# Altium footprint library 接口.PCBLIB: 266 footprints (part 7 of 17)
Each footprint in its own frame and in the unit in brackets; x right, y up, seen from the top. Pads: shape width x height; smd on the part's side, far side on the other; paste and mask are expansions set on the pad; w line width, h text height; cw(c..) or ccw(c..) is an arc to the next point about the centre after c.
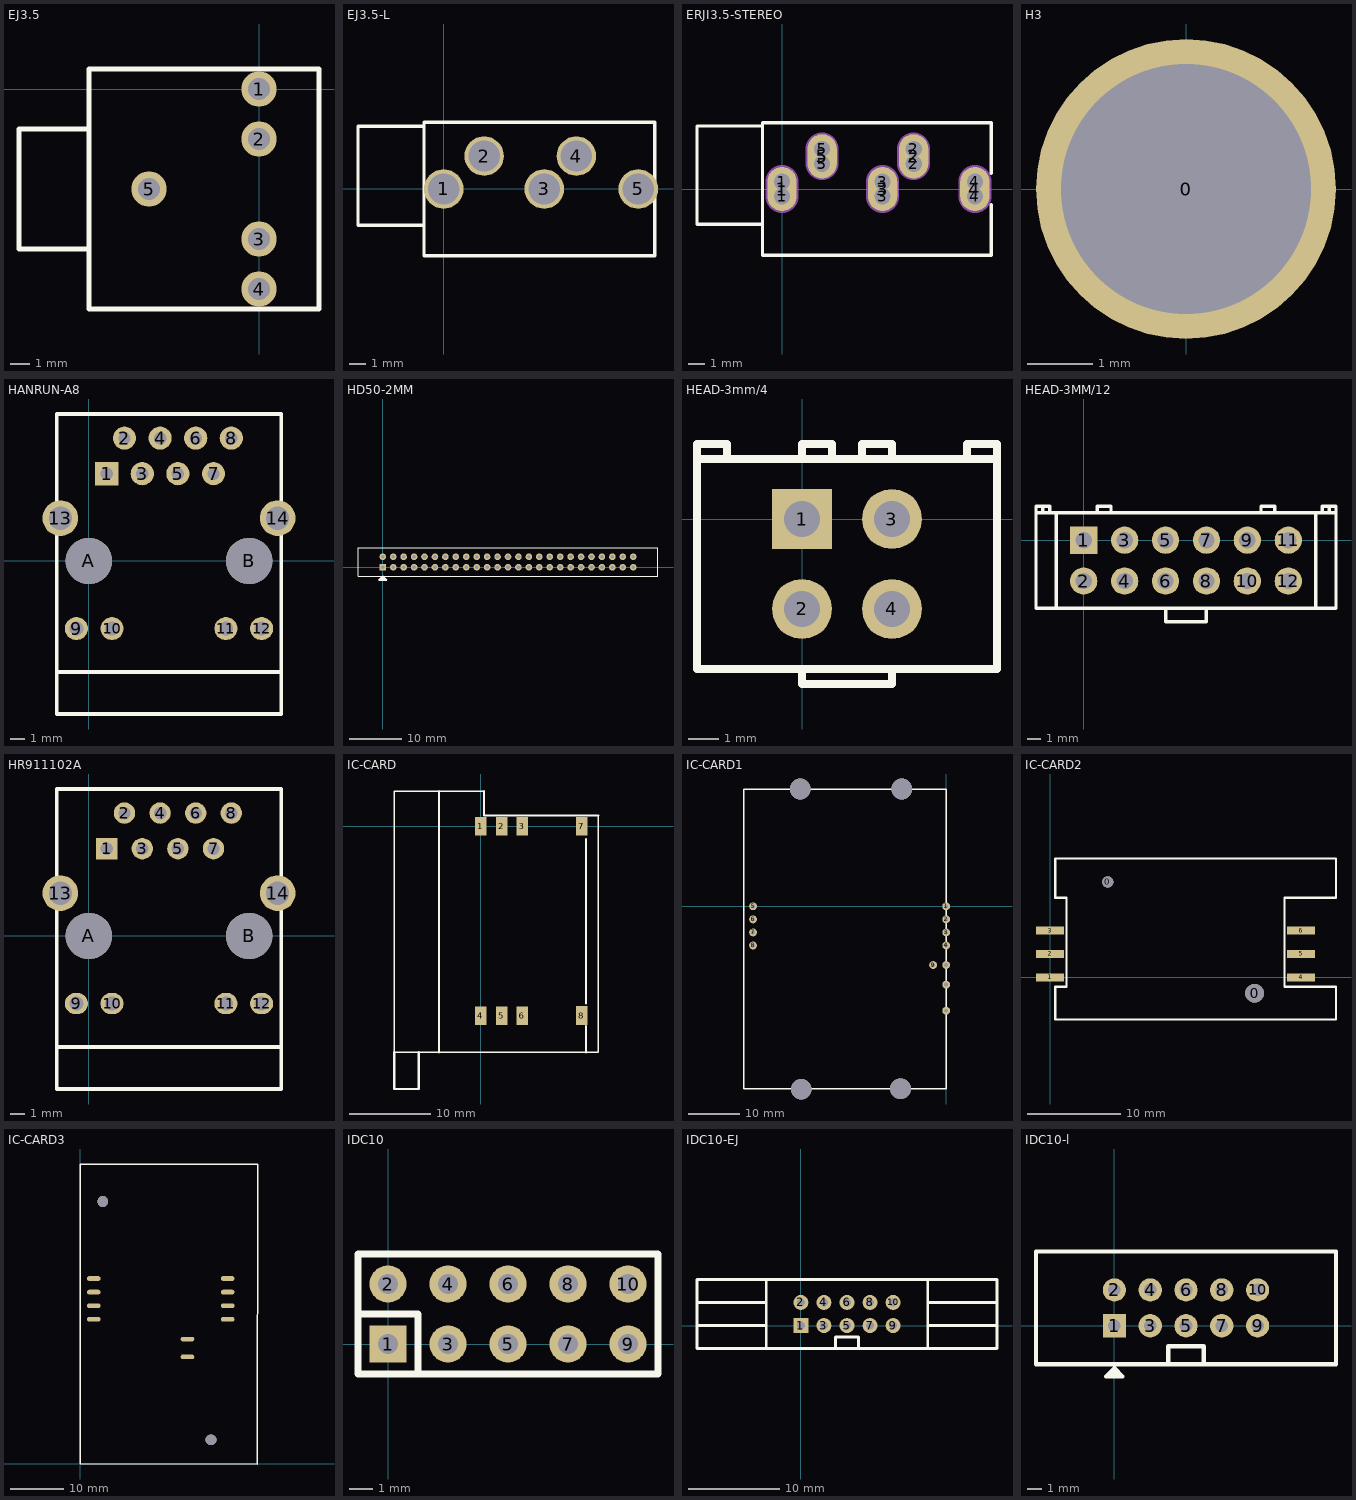
[diagram p6: the footprints below, top view; thin cyan lines are the x and y axes]

## EJ3.5 [mm]
pads (5):
  round 1.8 hole 1.1: 1(0,0) 2(0,-2.54) 3(0,-7.62) 4(0,-10.16) 5(-5.588,-5.08)
TopOverlay:
  lines w0.254: -8.636,-8.128 -12.192,-8.128 -12.192,-2.032 -8.636,-2.032 ; -8.636,-11.176 -8.636,1.016 3.048,1.016 3.048,-11.176 -8.636,-11.176

## EJ3.5-L [mm]
pads (5):
  round 2.4 hole 1.9: 1(0,0) 2(2.45,2) 3(6.1,0) 4(8.05,2) 5(11.8,0)
TopOverlay:
  lines w0.2: -1.2,-2.2 -5.2,-2.2 -5.2,3.8 -1.2,3.8 ; -1.2,-4.05 -1.2,4.05 12.8,4.05 12.8,-4.05 -1.2,-4.05

## ERJI3.5-STEREO [mm]
pads (15):
  round 1.2 hole 1: 1(0,-0.45) 1(0,0.45) 2(8.05,1.55) 2(8.05,2.45) 3(6.15,-0.45) 3(6.15,0.45) 4(11.8,-0.45) 4(11.8,0.45) 5(2.45,1.55) 5(2.45,2.45)
  oval 1.8x2.7 all layers, no hole: 1(0,0) 2(8.05,2) 3(6.15,0) 4(11.8,0) 5(2.45,2)
TopOverlay:
  lines w0.2: -1.2,-2.15 -5.2,-2.15 -5.2,3.85 -1.2,3.85 ; 12.8,-0.95 12.8,-4.05 -1.2,-4.05 -1.2,4.05 12.8,4.05 12.8,0.95
Mechanical2:
  lines w2.016: 0,-0.45 0,0.45 ; 2.45,1.55 2.45,2.45 ; 6.15,-0.45 6.15,0.45 ; 8.05,1.55 8.05,2.45 ; 11.8,-0.45 11.8,0.45

## H3 [mil]
pads (1):
  round 180 hole 150: 0(0,0)
TopLayer:
  circle w0: c0,0 r75
BottomLayer:
  circle w12: c0,0 r75
TopOverlay:
  circle w12: c0,0 r75
Mechanical1:
  circle w12: c0,0 r75

## HANRUN-A8 [mil]
pads (16):
  rect 65x65 hole 35: 1(50,245)
  round 65 hole 35: 2(100,345) 3(150,245) 4(200,345) 5(250,245) 6(300,345) 7(350,245) 8(400,345)
  round 65 hole 40: 9(-35.04,-189.92) 10(64.96,-189.92) 11(384.96,-189.92) 12(484.96,-189.92)
  round 100 hole 65: 13(-80,120) 14(530,120)
  round 130 hole 130: A(0,0) B(450,0)
TopOverlay:
  lines w10: -89.96,-311.92 539.96,-311.92 ; -89.96,-429.92 539.96,-429.92 539.96,412.6 -89.96,412.6 -89.96,-429.92

## HD50-2MM [mm]
pads (50):
  rect 1.27x1.27 hole 0.711: 1(0,0)
  round 1.27 hole 0.711: 2(0,2) 3(2,0) 4(2,2) 5(4,0) 6(4,2) 7(6,0) 8(6,2) 9(8,0) 10(8,2) 11(10,0) 12(10,2) 13(12,0) 14(12,2) 15(14,0) 16(14,2) 17(16,0) 18(16,2) 19(18,0) 20(18,2) 21(20,0) 22(20,2) 23(22,0) 24(22,2) 25(24,0) 26(24,2) 27(26,0) 28(26,2) 29(28,0) 30(28,2) 31(30,0) 32(30,2) 33(32,0) 34(32,2) 35(34,0) 36(34,2) 37(36,0) 38(36,2) 39(38,0) 40(38,2) 41(40,0) 42(40,2) 43(42,0) 44(42,2) 45(44,0) 46(44,2) 47(46,0) 48(46,2) 49(48,0) 50(48,2)
TopOverlay:
  lines w0.178: -4.75,-1.75 -4.75,3.75 52.75,3.75 52.75,-1.75 -4.75,-1.75
  lines w0.25: 0,-2 0,-1.75 ; 0,-2 -0.25,-2.25 0.25,-2.25 ; 0,-2 0.25,-2.25 ; 0,-2 -0.5,-2.5 0.5,-2.5 0.25,-2.25 ; 0,-1.75 -0.75,-2.5 0.75,-2.5 0,-1.75

## HEAD-3mm/4 [mm]
pads (4):
  rect 2x2 hole 1.2: 1(0,0)
  round 2 hole 1.2: 2(0,-3) 3(3,0) 4(3,-3)
TopOverlay:
  lines w0.254: -2.5,2 -2.5,2.5 -3.5,2.5 -3.5,2 ; 0,-5 0,-5.5 3,-5.5 3,-5 ; 0,2 0,2.5 1,2.5 1,2 ; 2,2 2,2.5 3,2.5 3,2 ; 5.5,2 5.5,2.5 6.5,2.5 6.5,2 ; -3.5,2 -3.5,-5 6.5,-5 6.5,2 ; -3.5,2 6.5,2

## HEAD-3MM/12 [mm]
pads (12):
  rect 2x2 hole 1.2: 1(0,0)
  round 2 hole 1.2: 2(0,-3) 3(3,0) 4(3,-3) 5(6,0) 6(6,-3) 7(9,0) 8(9,-3) 9(12,0) 10(12,-3) 11(15,0) 12(15,-3)
TopOverlay:
  lines w0.254: -3,2 -3,2.5 ; -2.5,2 -2.5,2.5 -3,2.5 ; -2,-5 -2,2 ; 1,2 1,2.5 2,2.5 2,2 ; 6,-5 6,-6 9,-6 9,-5 ; 13,2 13,2.5 14,2.5 14,2 ; 17,-5 17,2 ; 17.5,2 17.5,2.5 18,2.5 ; 18,2 18,2.5 ; -3.5,2 -3.5,2.5 -3,2.5 ; -3.5,2 18.5,2 ; -3.5,2 -3.5,-5 18.5,-5 18.5,2 ; 18,2.5 18.5,2.5 18.5,2

## HR911102A [mil]
pads (16):
  rect 60x60 hole 35: 1(50,245)
  round 60 hole 35: 2(100,345) 3(150,245) 4(200,345) 5(250,245) 6(300,345) 7(350,245) 8(400,345)
  oval 65x60 hole 40: 9(-35.04,-189.92) 10(64.96,-189.92) 11(384.96,-189.92) 12(484.96,-189.92)
  round 100 hole 65: 13(-80,120) 14(530,120)
  round 130 hole 130: A(0,0) B(450,0)
TopOverlay:
  lines w10: -89.96,-311.92 539.96,-311.92 ; -89.96,-429.92 539.96,-429.92 539.96,412.6 -89.96,412.6 -89.96,-429.92

## IC-CARD [mm]
pads (8):
  rect 1.4x2.3 smd: 1(0,0) 2(2.54,0) 3(5.08,0) 4(0,-23.241) 5(2.54,-23.241) 6(5.08,-23.241) 7(12.386,-0.005) 8(12.386,-23.205)
TopOverlay:
  lines w0.2: -10.614,4.295 -10.614,-27.705 14.386,-27.705 14.386,1.295 ; -10.604,4.295 0.396,4.295
  lines w0.254: -10.614,-27.705 -10.614,-32.205 -7.614,-32.205 -7.614,-27.705 ; -5.114,-27.705 -5.114,4.295 ; 0.396,4.295 0.396,1.295 14.386,1.295 ; 12.886,-27.705 12.886,-24.505 ; 12.886,-21.705 12.886,-1.605

## IC-CARD1 [mil]
pads (12):
  round 60 hole 30: 1(0,0) 2(0,-100) 3(0,-200) 4(0,-300) 5(-1480,0) 6(-1480,-100) 7(-1480,-200) 8(-1480,-300) 9(-100,-450) 10(0,-450) 11(0,-600) 12(0,-800)
via -1110,-1402.99 diameter 157.48 hole 157.48
via -350,-1397.99 diameter 157.48 hole 157.48
via -340,899.21 diameter 157.48 hole 157.48
via -1120,899.21 diameter 157.48 hole 157.48
TopOverlay:
  lines w10: -1550,-1400 0,-1400 0,899.21 -1550,899.21 -1550,-1400

## IC-CARD2 [mm]
pads (8):
  round 1.2 hole 1.2: 0(6.162,10.2)
  round 2 hole 2: 0(21.862,-1.7)
  rect 3x0.864 smd: 1(0,0) 2(0,2.5) 3(0,5) 4(26.824,0) 5(26.824,2.5) 6(26.824,5)
TopOverlay:
  lines w0.254: 30.559,-4.5 30.562,-1 25.062,-1 25.062,8.5 30.562,8.5 30.562,12.7 0.562,12.7 0.562,8.5 1.762,8.5 1.762,-1 0.562,-1 0.562,-4.5 30.534,-4.5 30.559,-4.475

## IC-CARD3 [mm]
pads (10):
  oval 2.54x0.889 smd: 1(27.5,34.62) 2(27.5,32.08) 3(27.5,29.54) 4(27.5,27) 5(2.5,34.62) 6(2.5,32.08) 7(2.5,29.54) 8(2.5,27) 9(20,23.302) 10(20,20)
via 4.2,49 diameter 2 hole 2
via 24.4,4.5 diameter 2 hole 2
TopOverlay:
  lines w0.254: 0,0 33.03,-0.006 33.1,56 0,56 0,0

## IDC10 [mil]
pads (10):
  rect 62x62 hole 34: 1(0,0)
  round 62 hole 34: 2(0,100) 3(100,0) 4(100,100) 5(200,0) 6(200,100) 7(300,0) 8(300,100) 9(400,0) 10(400,100)
TopOverlay:
  lines w12: -50,50 50,50 50,-50 ; -50,-50 -50,150 450,150 450,-50 -50,-50

## IDC10-EJ [mil]
pads (10):
  rect 65x65 hole 35: 1(0,0)
  round 65 hole 35: 2(0,100) 3(100,0) 4(100,100) 5(200,0) 6(200,100) 7(300,0) 8(300,100) 9(400,0) 10(400,100)
TopOverlay:
  lines w12: -450,0 -150,0 ; -450,100 -150,100 ; -150,-100 -150,200 ; 150,-100 150,-50 250,-50 250,-100 ; 550,-100 550,200 ; 550,0 850,0 ; 550,100 850,100 ; -450,-100 850,-100 850,200 -450,200 -450,-100

## IDC10-l [mil]
pads (10):
  rect 65x65 hole 35: 1(0,0)
  round 65 hole 35: 2(0,100) 3(100,0) 4(100,100) 5(200,0) 6(200,100) 7(300,0) 8(300,100) 9(400,0) 10(400,100)
TopOverlay:
  lines w10: 7.87,-137.8 0,-129.92 -11.81,-141.73 -23.62,-141.73 ; -23.62,-141.73 23.62,-141.73 0,-118.11 -23.62,-141.73
  lines w12: 150,-107.48 150,-57.48 250,-57.48 250,-107.48 ; -219.29,-107.48 619.29,-107.48 619.29,207.48 -219.29,207.48 -219.29,-107.48